# EAGLE library part MC33363AP (library wheat)
ON SEMI MC33363AP SW REG DIP16
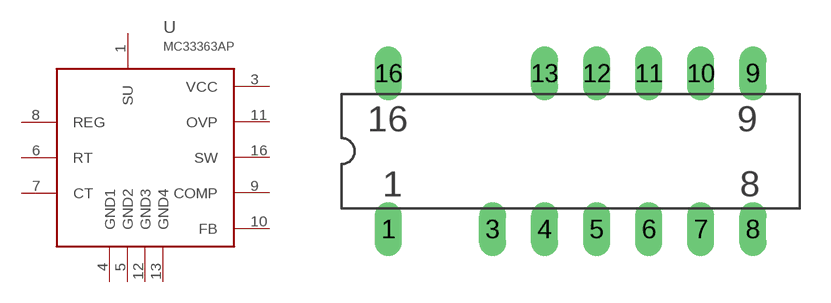
[diagram p45: symbol with the pads of DIP16_13; footprint DIP16_13]

Designator prefix U

## MC33363AP  [DIP16_13]
1  SU  pas
3  VCC  pas
4  GND1  pas
5  GND2  pas
6  RT  pas
7  CT  pas
8  REG  pas
9  COMP  pas
10  FB  pas
11  OVP  pas
12  GND3  pas
13  GND4  pas
16  SW  pas

## Footprint DIP16_13 (pad centres in mm)
d1p16 .3ls missing pins 2, 14, 15
drill 0.813 long: 1 0,0; 3 5.08,0; 4 7.62,0; 5 10.16,0; 6 12.7,0; 7 15.24,0; 8 17.78,0; 9 17.78,7.62; 10 15.24,7.62; 11 12.7,7.62; 12 10.16,7.62; 13 7.62,7.62; 16 0,7.62